# Altium footprint library TGIS_Microcontrollers.PcbLib: 18 footprints (part 2 of 2)
Each footprint in its own frame and in the unit in brackets; x right, y up, seen from the top. Pads: shape width x height; smd on the part's side, far side on the other; paste and mask are expansions set on the pad; w line width, h text height; cw(c..) or ccw(c..) is an arc to the next point about the centre after c.
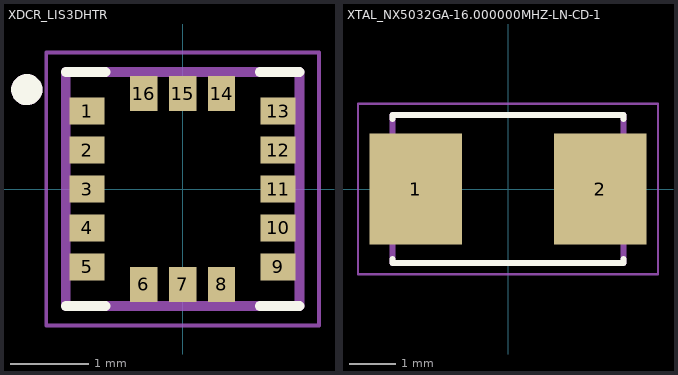
[diagram p1: the footprints below, top view; thin cyan lines are the x and y axes]

## XDCR_LIS3DHTR [mm]
pads (16):
  rect 0.45x0.35 smd paste-1 mask+0: 1(-1.225,1) 2(-1.225,0.5) 3(-1.225,0) 4(-1.225,-0.5) 5(-1.225,-1) 9(1.225,-1) 10(1.225,-0.5) 11(1.225,0) 12(1.225,0.5) 13(1.225,1)
  rect 0.35x0.45 smd paste-1 mask+0: 6(-0.5,-1.225) 7(0,-1.225) 8(0.5,-1.225) 14(0.5,1.225) 15(0,1.225) 16(-0.5,1.225)
Top Overlay:
  circle w0.2: c-2,1.275 r0.1
  lines w0.127: -1.5,-1.5 -0.99,-1.5 ; -1.5,1.5 -0.99,1.5 ; 0.99,-1.5 1.5,-1.5 ; 0.99,1.5 1.5,1.5
Top Paste:
  region: -1.045,0.86 -1.405,0.86 -1.405,1.14 -1.045,1.14
  region: -1.045,0.36 -1.405,0.36 -1.405,0.64 -1.045,0.64
  region: -1.045,-1.14 -1.405,-1.14 -1.405,-0.86 -1.045,-0.86
  region: -1.045,-0.64 -1.405,-0.64 -1.405,-0.36 -1.045,-0.36
  region: -0.36,-1.405 -0.64,-1.405 -0.64,-1.045 -0.36,-1.045
  region: 0.64,-1.405 0.36,-1.405 0.36,-1.045 0.64,-1.045
  region: 1.405,-1.14 1.045,-1.14 1.045,-0.86 1.405,-0.86
  region: 1.405,-0.64 1.045,-0.64 1.045,-0.36 1.405,-0.36
  region: 1.405,0.86 1.045,0.86 1.045,1.14 1.405,1.14
  region: 1.405,0.36 1.045,0.36 1.045,0.64 1.405,0.64
  region: 0.64,1.045 0.36,1.045 0.36,1.405 0.64,1.405
  region: -0.36,1.045 -0.64,1.045 -0.64,1.405 -0.36,1.405
  region: 0.14,1.045 -0.14,1.045 -0.14,1.405 0.14,1.405
  region: 1.405,-0.14 1.045,-0.14 1.045,0.14 1.405,0.14
  region: -1.045,-0.14 -1.405,-0.14 -1.405,0.14 -1.045,0.14
  region: 0.14,-1.405 -0.14,-1.405 -0.14,-1.045 0.14,-1.045
Top Solder:
  region: 1.5,0.775 0.95,0.775 0.95,1.225 1.5,1.225
  region: 1.5,0.275 0.95,0.275 0.95,0.725 1.5,0.725
  region: 1.5,-1.225 0.95,-1.225 0.95,-0.775 1.5,-0.775
  region: 1.5,-0.725 0.95,-0.725 0.95,-0.275 1.5,-0.275
  region: 0.725,-1.5 0.275,-1.5 0.275,-0.95 0.725,-0.95
  region: -0.275,-1.5 -0.725,-1.5 -0.725,-0.95 -0.275,-0.95
  region: -0.95,-1.225 -1.5,-1.225 -1.5,-0.775 -0.95,-0.775
  region: -0.95,-0.725 -1.5,-0.725 -1.5,-0.275 -0.95,-0.275
  region: -0.95,0.775 -1.5,0.775 -1.5,1.225 -0.95,1.225
  region: -0.95,0.275 -1.5,0.275 -1.5,0.725 -0.95,0.725
  region: 0.725,0.95 0.275,0.95 0.275,1.5 0.725,1.5
  region: -0.275,0.95 -0.725,0.95 -0.725,1.5 -0.275,1.5
  region: 0.225,-1.5 -0.225,-1.5 -0.225,-0.95 0.225,-0.95
  region: 0.225,0.95 -0.225,0.95 -0.225,1.5 0.225,1.5
  region: 1.5,-0.225 0.95,-0.225 0.95,0.225 1.5,0.225
  region: -0.95,-0.225 -1.5,-0.225 -1.5,0.225 -0.95,0.225
Mechanical 13:
  circle w0.2: c-2,1.275 r0.1
  lines w0.127: -1.5,-1.5 1.5,-1.5 1.5,1.5 -1.5,1.5 -1.5,-1.5
Mechanical 15:
  lines w0.05: -1.75,-1.75 1.75,-1.75 1.75,1.75 -1.75,1.75 -1.75,-1.75
3D body "step_temp.STEP": height 1, standoff 0, extent -1.5,-1.5 1.5,1.5

## XTAL_NX5032GA-16.000000MHZ-LN-CD-1 [mm]
pads (2):
  rect 2x2.4 smd: 1(-2,0) 2(2,0)
Top Overlay:
  lines w0.127: -2.5,-1.52 -2.5,-1.6 2.5,-1.6 2.5,-1.52 ; -2.5,1.52 -2.5,1.6 2.5,1.6 2.5,1.52
Mechanical 13:
  lines w0.127: -2.5,-1.6 2.5,-1.6 2.5,1.6 -2.5,1.6 -2.5,-1.6
Mechanical 15:
  lines w0.05: -3.25,-1.85 3.25,-1.85 3.25,1.85 -3.25,1.85 -3.25,-1.85
3D body "step_temp.STEP": height 1.5, standoff 0, extent -2.5,-1.6 2.5,1.6